# EAGLE library part MEGAWING_FULL_P1 (library Papilio)
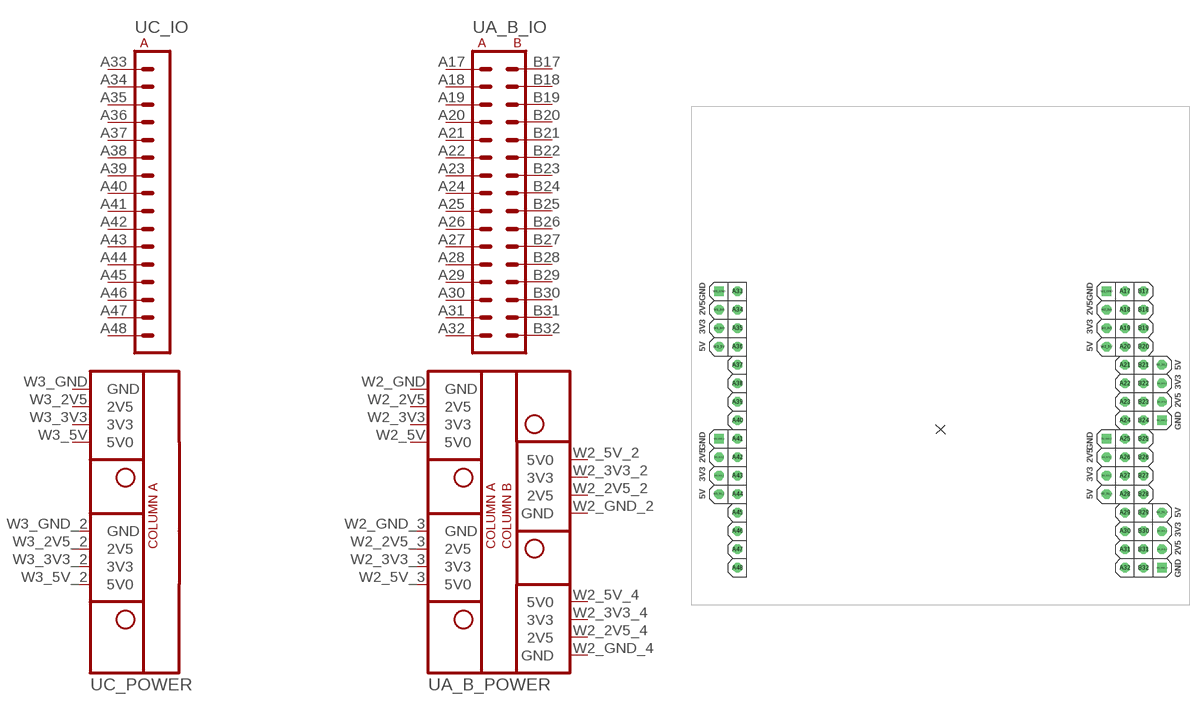
[diagram p7: symbol with the pads of MEGAWING_FULL_NOHOLES_P1; footprint MEGAWING_FULL_NOHOLES_P1]

Designator prefix -; gates A_B_IO=WING32_IO C_IO=WING16_IO A_B_POWER=WING32_POWER C_POWER=WING16_POWER

## MEGAWING_FULL_P1MEGAWING_P1  [MEGAWING_FULL_NOHOLES_P1]
A17  A_B_IO:A1
A18  A_B_IO:A2
A19  A_B_IO:A3
A20  A_B_IO:A4
A21  A_B_IO:A5
A22  A_B_IO:A6
A23  A_B_IO:A7
A24  A_B_IO:A8
A25  A_B_IO:A9
A26  A_B_IO:A10
A27  A_B_IO:A11
A28  A_B_IO:A12
A29  A_B_IO:A13
A30  A_B_IO:A14
A31  A_B_IO:A15
A32  A_B_IO:A16
A33  C_IO:A1
A34  C_IO:A2
A35  C_IO:A3
A36  C_IO:A4
A37  C_IO:A5
A38  C_IO:A6
A39  C_IO:A7
A40  C_IO:A8
A41  C_IO:A9
A42  C_IO:A10
A43  C_IO:A11
A44  C_IO:A12
A45  C_IO:A13
A46  C_IO:A14
A47  C_IO:A15
A48  C_IO:A16
B17  A_B_IO:B1
B18  A_B_IO:B2
B19  A_B_IO:B3
B20  A_B_IO:B4
B21  A_B_IO:B5
B22  A_B_IO:B6
B23  A_B_IO:B7
B24  A_B_IO:B8
B25  A_B_IO:B9
B26  A_B_IO:B10
B27  A_B_IO:B11
B28  A_B_IO:B12
B29  A_B_IO:B13
B30  A_B_IO:B14
B31  A_B_IO:B15
B32  A_B_IO:B16
W2_2V5  A_B_POWER:2V5  pas
W2_2V5_2  A_B_POWER:2V5  pas
W2_2V5_3  A_B_POWER:2V5  pas
W2_2V5_4  A_B_POWER:2V5  pas
W2_3V3  A_B_POWER:3V3  pas
W2_3V3_2  A_B_POWER:3V3  pas
W2_3V3_3  A_B_POWER:3V3  pas
W2_3V3_4  A_B_POWER:3V3  pas
W2_5V  A_B_POWER:5V0  pas
W2_5V_2  A_B_POWER:5V0  pas
W2_5V_3  A_B_POWER:5V0  pas
W2_5V_4  A_B_POWER:5V0  pas
W2_GND  A_B_POWER:GND  pwr
W2_GND_2  A_B_POWER:GND  pwr
W2_GND_3  A_B_POWER:GND  pwr
W2_GND_4  A_B_POWER:GND  pwr
W3_2V5  C_POWER:2V5  pas
W3_2V5_2  C_POWER:2V5  pas
W3_3V3  C_POWER:3V3  pas
W3_3V3_2  C_POWER:3V3  pas
W3_5V  C_POWER:5V0  pas
W3_5V_2  C_POWER:5V0  pas
W3_GND  C_POWER:GND  pwr
W3_GND_2  C_POWER:GND  pwr

## Footprint MEGAWING_FULL_NOHOLES_P1 (pad centres in mm)
drill 0.8 octagon: A17 59.69,43.18; A18 59.69,40.64; A19 59.69,38.1; A20 59.69,35.56; A21 59.69,33.02; A22 59.69,30.48; A23 59.69,27.94; A24 59.69,25.4; A25 59.69,22.86; A26 59.69,20.32; A27 59.69,17.78; A28 59.69,15.24; A29 59.69,12.7; A30 59.69,10.16; A31 59.69,7.62; A32 59.69,5.08; A33 6.35,43.18; A34 6.35,40.64; A35 6.35,38.1; A36 6.35,35.56; A37 6.35,33.02; A38 6.35,30.48; A39 6.35,27.94; A40 6.35,25.4; A41 6.35,22.86; A42 6.35,20.32; A43 6.35,17.78; A44 6.35,15.24; A45 6.35,12.7; A46 6.35,10.16; A47 6.35,7.62; A48 6.35,5.08; B17 62.23,43.18; B18 62.23,40.64; B19 62.23,38.1; B20 62.23,35.56; B21 62.23,33.02; B22 62.23,30.48; B23 62.23,27.94; B24 62.23,25.4; B25 62.23,22.86; B26 62.23,20.32; B27 62.23,17.78; B28 62.23,15.24; B29 62.23,12.7; B30 62.23,10.16; B31 62.23,7.62; B32 62.23,5.08; W2_2V5 57.15,40.64; W2_2V5_2 64.77,27.94; W2_2V5_3 57.15,20.32; W2_2V5_4 64.77,7.62; W2_3V3 57.15,38.1; W2_3V3_2 64.77,30.48; W2_3V3_3 57.15,17.78; W2_3V3_4 64.77,10.16; W2_5V 57.15,35.56; W2_5V_2 64.77,33.02; W2_5V_3 57.15,15.24; W2_5V_4 64.77,12.7; W3_2V5 3.81,40.64; W3_2V5_2 3.81,20.32; W3_3V3 3.81,38.1; W3_3V3_2 3.81,17.78; W3_5V 3.81,35.56; W3_5V_2 3.81,15.24
drill 0.8 square: W2_GND 57.15,43.18; W2_GND_2 64.77,25.4; W2_GND_3 57.15,22.86; W2_GND_4 64.77,5.08; W3_GND 3.81,43.18; W3_GND_2 3.81,22.86